# Altium footprint library EPCS16SI8N.PcbLib: 1 footprints
Each footprint in its own frame and in the unit in brackets; x right, y up, seen from the top. Pads: shape width x height; smd on the part's side, far side on the other; paste and mask are expansions set on the pad; w line width, h text height; cw(c..) or ccw(c..) is an arc to the next point about the centre after c.
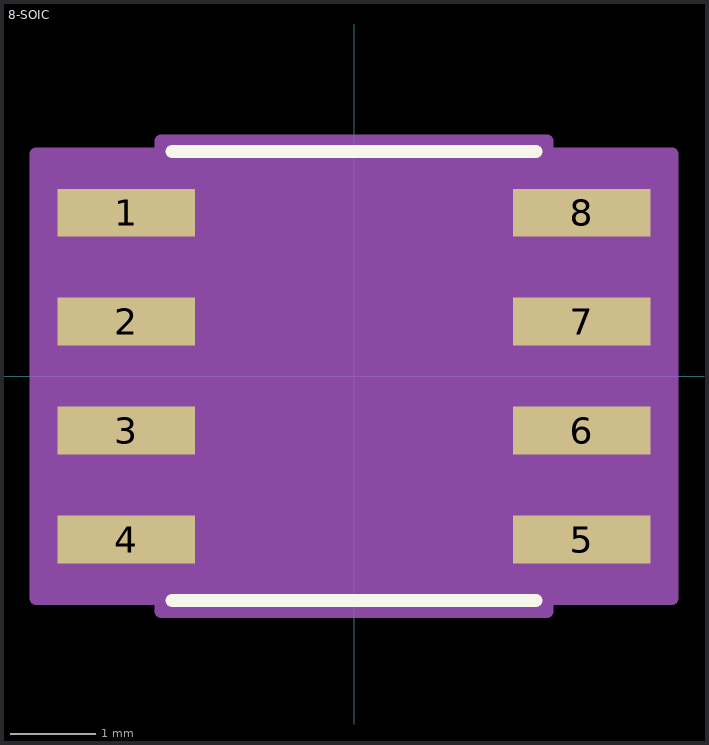
[diagram p0: the footprint, top view; thin cyan lines are the x and y axes]

## 8-SOIC [mil]
pads (8):
  rect 63x22 smd: 1(-104.5,75) 2(-104.5,25) 3(-104.5,-25) 4(-104.5,-75) 5(104.5,-75) 6(104.5,-25) 7(104.5,25) 8(104.5,75)
Top Overlay:
  lines w6: -83.5,-103 83.5,-103 ; -83.5,103 83.5,103
Mechanical 13:
  lines w0: -12,98 ccw(c0,98) 12,98
Mechanical 15:
  region: -88.5,-102 -146,-102 -146,102 -88.5,102 -88.5,108 88.5,108 88.5,102 146,102 146,-102 88.5,-102 88.5,-108 -88.5,-108
  lines w6: -146,-102 -146,102 -88.5,102 -88.5,108 88.5,108 88.5,102 146,102 146,-102 88.5,-102 88.5,-108 -88.5,-108 -88.5,-102 -146,-102
3D body "8-SOIC.stp": height 68.01, standoff 0, extent -121.99,-98 122.01,98